# Altium schematic symbol library LibreriaComponentes.SchLib: 9 symbols
Pins are listed as number, name and electrical type; pins without a type are passive.

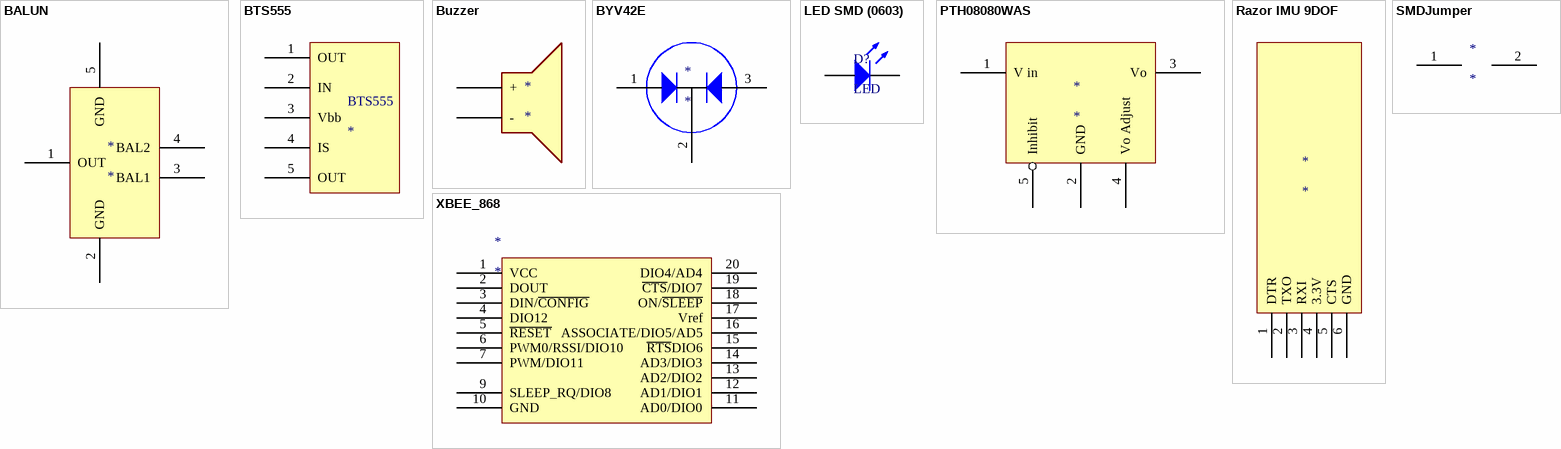
[diagram p0: symbols BALUN to XBEE_868]

## BALUN
designator *
footprint BALUN_SMD (Harmonic Filter-Balun; Body 2.0 x 1.25 mm)
pins: 1 OUT, 2 GND, 3 BAL1, 4 BAL2, 5 GND

## BTS555
designator BTS555
footprint BTS555
pins: 1 OUT, 2 IN, 3 Vbb, 4 IS, 5 OUT

## Buzzer
designator *
footprint BUZZER
pins: 1 +, 2 -

## BYV42E
designator *
footprint BYV42E
pins: 1, 2, 3

## LED SMD (0603)
designator D?, comment LED
footprint 1608[0603] (Chip Capacitor; Body 1.6 x 0.8 mm (LxW typ))
pins: 1, 2

## PTH08080WAS
designator *
footprint PTH08080WAS
pins: 1 V in, 2 GND, 3 Vo, 4 Vo Adjust, 5 Inhibit

## Razor IMU 9DOF
designator *
footprint Razor IMU 9DOF
pins: 1 DTR, 2 TXO, 3 RXI, 4 3.3V, 5 CTS, 6 GND

## SMDJumper
designator *
footprint SMDJumper
pins: 1, 2

## XBEE_868
designator *
footprint XBPRO868
pins: 1 VCC, 2 DOUT, 3 DIN/~{CONFIG}, 4 DIO12, 5 ~{RESET}, 6 PWM0/RSSI/DIO10, 7 PWM/DIO11, 9 SLEEP_RQ/DIO8, 10 GND, 11 AD0/DIO0, 12 AD1/DIO1, 13 AD2/DIO2, 14 AD3/DIO3, 15 ~{RTS}DIO6, 16 ASSOCIATE/DIO5/AD5, 17 Vref, 18 ON/~{SLEEP}, 19 ~{CTS}/DIO7, 20 DIO4/AD4